# EAGLE library part 6120XX22323_61200622323 (library WR-BHD)
WR-BHD 2.54 mm Cable Side Characteristics Working Voltage: 250 V Operating Temperature : -40°C up to 105°C UL approval: E323964 UL94-V0 Applications Industrial Production lines Details see: www.we-online.com/components/products/WTB_WR_BHD_BOX_HEADER_2_54MM_FEMALE_CABLE_SIDE Updated by Ella 2026-09-16 2026 (C) Würth Elektronik
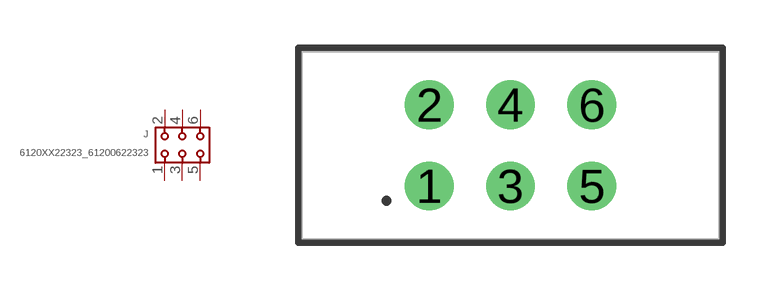
[diagram p38: symbol with the pads of 61200622323; footprint 61200622323]

Designator prefix J

## 6120XX22323_61200622323 (CATEGORY: Connectors; DATASHEET: https://www.we-online.com/redexpert/spec/61200622323?ae; GENDER: Female; LENGTH: 13.07 mm; MANUFACTURER: Würth Elektronik; MATES_WITH: 600612282804; MOUNT: THT; MPN: 61200622323; OPERATING_TEMPERATURE: -40 °C up to +105 °C; PACKAGING: Tray; PINS: 6; PITCH: 2.54mm; RATED_CURRENT: 1 A; SIZE: Transition; TYPE: Straight; VALUE: 61200622323)  [61200622323]
1  1  pas
2  2  pas
3  3  pas
4  4  pas
5  5  pas
6  6  pas

## Footprint 61200622323 (pad centres in mm)
WR-BHD Wire-to-Board Connectors, 2.54mm, Female, Transition, 6pins
drill 1.02: 1 -2.54,-1.27; 2 -2.54,1.27; 3 0,-1.27; 4 0,1.27; 5 2.54,-1.27; 6 2.54,1.27